# EAGLE library part TS5A3160DBVR (library SamacSys_Parts)
1-Ohm SPDT Analog Switch 5-V/3.3-V Single-Channel 2:1 Multiplexer/Demultiplexer Source: Datasheet <http://www.ti.com/lit/gpn/ts5a3160>
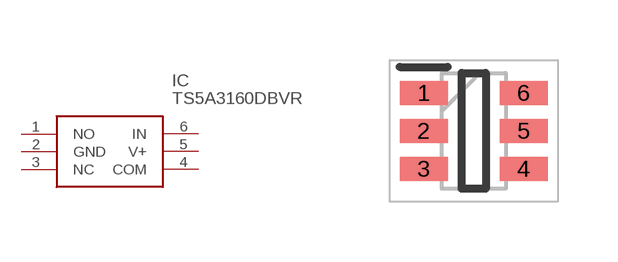
[diagram p252: symbol with the pads of SOT95P280X145-6N; footprint SOT95P280X145-6N]

Designator prefix IC

## TS5A3160DBVR (ARROW_PART_NUMBER: TS5A3160DBVR; ARROW_PRICE-STOCK: https://www.arrow.com/en/products/ts5a3160dbvr/texas-instruments; DESCRIPTION: 1-Ohm SPDT Analog Switch 5-V/3.3-V Single-Channel 2:1 Multiplexer/Demultiplexer; HEIGHT: 1.45mm; MANUFACTURER_NAME: Texas Instruments; MANUFACTURER_PART_NUMBER: TS5A3160DBVR; MOUSER_PART_NUMBER: 595-TS5A3160DBVR; MOUSER_PRICE-STOCK: https://www.mouser.co.uk/ProductDetail/Texas-Instruments/TS5A3160DBVR?qs=0O%2FZFlpUpJVDHzqg5SFX4w%3D%3D)  [SOT95P280X145-6N]
1  NO
2  GND
3  NC  nc
4  COM
5  V+
6  IN

## Footprint SOT95P280X145-6N (pad centres in mm)
DBV000a
smd 1.2 x 0.6: 1 -1.25,0.95; 2 -1.25,0; 3 -1.25,-0.95; 4 1.25,-0.95; 5 1.25,0; 6 1.25,0.95